# EAGLE library part OPAMP_DUAL (library pie)
Dual op amp with 1.8 to 6V operating range We are using this to buffer analog I/O pins from the Panda from peripherals on the Watson data sheet: http://ww1.microchip.com/downloads/en/devicedoc/21733j.pdf
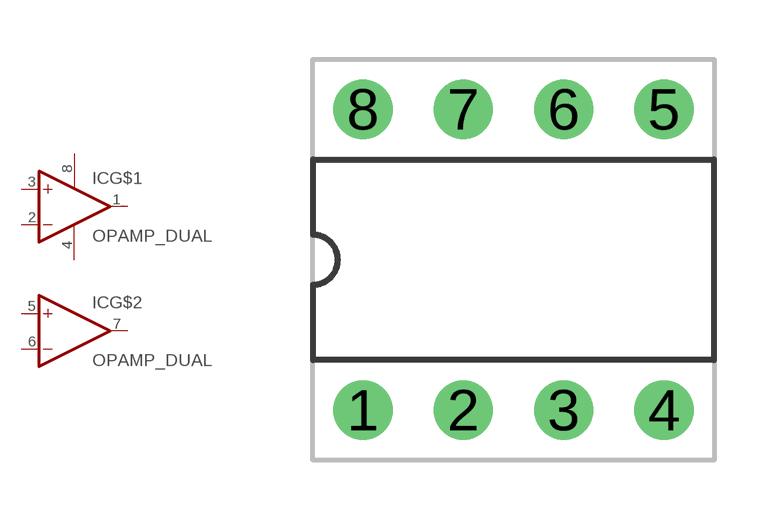
[diagram p3: symbol with the pads of OPAMP_DUAL_DIL; footprint OPAMP_DUAL_DIL]

Designator prefix IC; gates G$1=OPAMP G$2=OPAMP G$3=PWR+-

## OPAMP_DUALSOCKET (PIE_DIGIKEY-PN: A100204-ND; PIE_MICROCHIP-PN: MCP6001)  [OPAMP_DUAL_DIL]
1  G$1:OUT  out
2  G$1:-IN  in
3  G$1:+IN  in
4  G$3:V-  pwr
5  G$2:+IN  in
6  G$2:-IN  in
7  G$2:OUT  out
8  G$3:V+  pwr

## Footprint OPAMP_DUAL_DIL (pad centres in mm)
Dual In Line package type P Currently used for OPAMP_DUAL (see http://ww1.microchip.com/downloads/en/devicedoc/21733j.pdf or, for socket, http://www.digikey.com/product-detail/en/1-390261-2/A100204-ND/1125622 )
drill 0.991: 1 -3.81,-3.81; 2 -1.27,-3.81; 3 1.27,-3.81; 4 3.81,-3.81; 5 3.81,3.81; 6 1.27,3.81; 7 -1.27,3.81; 8 -3.81,3.81